# Altium footprint library Lib_foot_Radar.PcbLib: 80 footprints (part 1 of 5)
Each footprint in its own frame and in the unit in brackets; x right, y up, seen from the top. Pads: shape width x height; smd on the part's side, far side on the other; paste and mask are expansions set on the pad; w line width, h text height; cw(c..) or ccw(c..) is an arc to the next point about the centre after c.
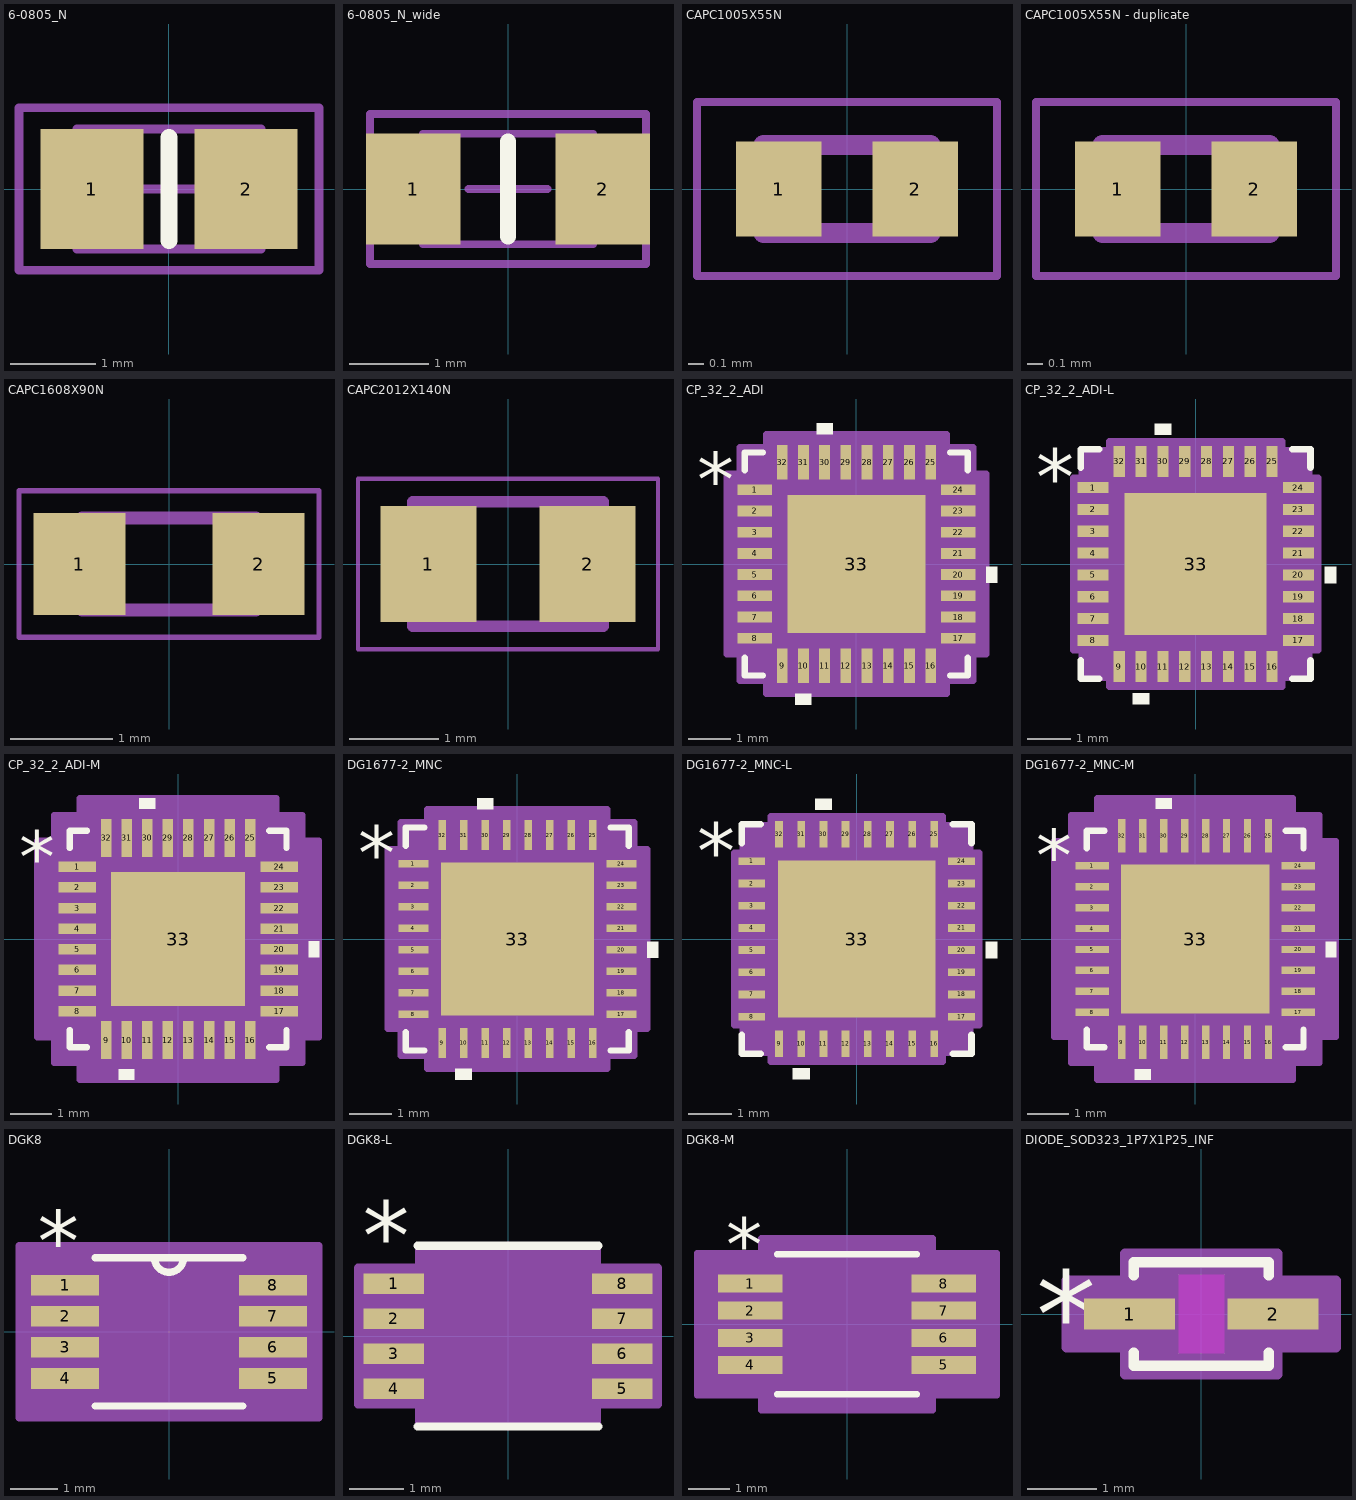
[diagram p0: the footprints below, top view; thin cyan lines are the x and y axes]

## 6-0805_N [mm]
pads (2):
  rect 1.2x1.4 smd: 1(-0.9,0) 2(0.9,0)
Top Overlay:
  lines w0.2: 0,-0.6 0,0.6
Mechanical 13:
  lines w0.1: -1.075,-0.7 1.075,-0.7 1.075,0.7 -1.075,0.7 -1.075,-0.7
Mechanical 15:
  lines w0.1: -0.5,0 0.5,0 ; 0,-0.5 0,0.5 ; -1.75,-0.95 1.75,-0.95 1.75,0.95 -1.75,0.95 -1.75,-0.95
3D body: height 0.7, standoff 0, extent -1.075,-0.7 1.075,0.7

## 6-0805_N_wide [mm]
pads (2):
  rect 1.2x1.4 smd: 1(-1.2,0) 2(1.2,0)
Top Overlay:
  lines w0.2: 0,-0.6 0,0.6
Mechanical 13:
  lines w0.1: -1.075,-0.7 1.075,-0.7 1.075,0.7 -1.075,0.7 -1.075,-0.7
Mechanical 15:
  lines w0.1: -0.5,0 0.5,0 ; 0,-0.5 0,0.5 ; -1.75,-0.95 1.75,-0.95 1.75,0.95 -1.75,0.95 -1.75,-0.95
3D body: height 0.7, standoff 0, extent -1.075,-0.7 1.075,0.7

## CAPC1005X55N [mm]
pads (2):
  rect 0.54x0.6 smd: 1(-0.432,0) 2(0.432,0)
Mechanical 13:
  lines w0.127: -0.53,-0.28 0.53,-0.28 0.53,0.28 -0.53,0.28 -0.53,-0.28
Mechanical 15:
  lines w0.05: -0.95,-0.55 0.95,-0.55 0.95,0.55 -0.95,0.55 -0.95,-0.55
3D body "step_temp.STEP": height 0.55, standoff 0, extent -0.5,-0.25 0.5,0.25

## CAPC1005X55N - duplicate [mm]
pads (2):
  rect 0.54x0.6 smd: 1(-0.432,0) 2(0.432,0)
Mechanical 13:
  lines w0.127: -0.53,-0.28 -0.53,0.28 0.53,0.28 0.53,-0.28 -0.53,-0.28
Mechanical 15:
  lines w0.05: -0.95,-0.55 -0.95,0.55 0.95,0.55 0.95,-0.55 -0.95,-0.55
3D body "step_temp.STEP": height 0.55, standoff 0, extent -0.5,-0.25 0.5,0.25

## CAPC1608X90N [mm]
pads (2):
  rect 0.9x1 smd: 1(-0.875,0) 2(0.875,0)
Mechanical 13:
  lines w0.127: -0.85,-0.45 -0.85,0.45 0.85,0.45 0.85,-0.45 -0.85,-0.45
Mechanical 15:
  lines w0.05: -1.465,-0.715 -1.465,0.715 1.465,0.715 1.465,-0.715 -1.465,-0.715
3D body "G-188_MUR.step": height 0.89, standoff 0, extent -0.8,-0.406 0.8,0.406

## CAPC2012X140N [mm]
pads (2):
  rect 1.08x1.3 smd: 1(-0.895,0) 2(0.895,0)
Mechanical 13:
  lines w0.127: -1.07,-0.7 1.07,-0.7 1.07,0.7 -1.07,0.7 -1.07,-0.7
Mechanical 15:
  lines w0.05: -1.685,-0.96 1.685,-0.96 1.685,0.96 -1.685,0.96 -1.685,-0.96
3D body "GRM21BR61E106KA73K.step": height -0.38, standoff -1.63, extent -1,-0.7 1,0.7

## CP_32_2_ADI [mil]
pads (33):
  rect 32x10 smd paste+0 mask+0: 1(-94.5,68.9) 2(-94.5,49.21) 3(-94.5,29.53) 4(-94.5,9.84) 5(-94.5,-9.84) 6(-94.5,-29.53) 7(-94.5,-49.21) 8(-94.5,-68.9) 17(94.5,-68.9) 18(94.5,-49.21) 19(94.5,-29.53) 20(94.5,-9.84) 21(94.5,9.84) 22(94.5,29.53) 23(94.5,49.21) 24(94.5,68.9)
  rect 10x32 smd paste+0 mask+0: 9(-68.9,-94.5) 10(-49.21,-94.5) 11(-29.53,-94.5) 12(-9.84,-94.5) 13(9.84,-94.5) 14(29.53,-94.5) 15(49.21,-94.5) 16(68.9,-94.5) 25(68.9,94.5) 26(49.21,94.5) 27(29.53,94.5) 28(9.84,94.5) 29(-9.84,94.5) 30(-29.53,94.5) 31(-49.21,94.5) 32(-68.9,94.5)
  rect 128x128 smd paste-64 mask+0: 33(0,0)
Top Overlay:
  region: -41.71,-120.5 -56.71,-120.5 -56.71,-130.5 -41.71,-130.5
  region: 120.5,-2.34 130.5,-2.34 130.5,-17.34 120.5,-17.34
  region: -22.03,120.5 -37.03,120.5 -37.03,130.5 -22.03,130.5
  lines w6: -103.5,-87 -103.5,-103.5 -87,-103.5 ; -103.5,87 -103.5,103.5 -87,103.5 ; 87,-103.5 103.5,-103.5 103.5,-87 ; 87,103.5 103.5,103.5 103.5,87
  text "*" at -148,53.74 h50
Top Paste:
  region: -3.94,60.06 -60.06,60.06 -60.06,3.94 -3.94,3.94
  region: -3.94,-3.94 -60.06,-3.94 -60.06,-60.06 -3.94,-60.06
  region: 60.06,60.06 3.94,60.06 3.94,3.94 60.06,3.94
  region: 60.06,-3.94 3.94,-3.94 3.94,-60.06 60.06,-60.06
Mechanical 13:
  lines w1: -98.5,48.5 -48.5,98.5 ; -98.5,-98.5 98.5,-98.5 98.5,98.5 -98.5,98.5 -98.5,-98.5 ; -98.5,-74.9 -98.5,-62.9 -98.5,-74.9 ; -98.5,-55.21 -98.5,-43.21 -98.5,-55.21 ; -98.5,-35.53 -98.5,-23.53 -98.5,-35.53 ; -98.5,-15.84 -98.5,-3.84 -98.5,-15.84 ; -98.5,3.84 -98.5,15.84 -98.5,3.84 ; -98.5,23.53 -98.5,35.53 -98.5,23.53 ; -98.5,43.21 -98.5,55.21 -98.5,43.21 ; -98.5,62.9 -98.5,74.9 -98.5,62.9 ; -74.9,-98.5 -62.9,-98.5 -74.9,-98.5 ; -74.9,98.5 -62.9,98.5 -74.9,98.5 ; -55.21,-98.5 -43.21,-98.5 -55.21,-98.5 ; -55.21,98.5 -43.21,98.5 -55.21,98.5 ; -35.53,-98.5 -23.53,-98.5 -35.53,-98.5 ; -35.53,98.5 -23.53,98.5 -35.53,98.5 ; -15.84,-98.5 -3.84,-98.5 -15.84,-98.5 ; -15.84,98.5 -3.84,98.5 -15.84,98.5 ; 3.84,-98.5 15.84,-98.5 3.84,-98.5 ; 3.84,98.5 15.84,98.5 3.84,98.5 ; 23.53,-98.5 35.53,-98.5 23.53,-98.5 ; 23.53,98.5 35.53,98.5 23.53,98.5 ; 43.21,-98.5 55.21,-98.5 43.21,-98.5 ; 43.21,98.5 55.21,98.5 43.21,98.5 ; 62.9,-98.5 74.9,-98.5 62.9,-98.5 ; 62.9,98.5 74.9,98.5 62.9,98.5 ; 98.5,-74.9 98.5,-62.9 98.5,-74.9 ; 98.5,-55.21 98.5,-43.21 98.5,-55.21 ; 98.5,-35.53 98.5,-23.53 98.5,-35.53 ; 98.5,-15.84 98.5,-3.84 98.5,-15.84 ; 98.5,3.84 98.5,15.84 98.5,3.84 ; 98.5,23.53 98.5,35.53 98.5,23.53 ; 98.5,43.21 98.5,55.21 98.5,43.21 ; 98.5,62.9 98.5,74.9 98.5,62.9
  text "*" at -91,53.74 h50
Mechanical 15:
  region: -83.9,-108.5 -108.5,-108.5 -108.5,-83.9 -120.5,-83.9 -120.5,83.9 -108.5,83.9 -108.5,108.5 -83.9,108.5 -83.9,120.5 83.9,120.5 83.9,108.5 108.5,108.5 108.5,83.9 120.5,83.9 120.5,-83.9 108.5,-83.9 108.5,-108.5 83.9,-108.5 83.9,-120.5 -83.9,-120.5
  lines w6: -120.5,-83.9 -108.5,-83.9 -108.5,-108.5 -83.9,-108.5 -83.9,-120.5 83.9,-120.5 83.9,-108.5 108.5,-108.5 108.5,-83.9 120.5,-83.9 120.5,83.9 108.5,83.9 108.5,108.5 83.9,108.5 83.9,120.5 -83.9,120.5 -83.9,108.5 -108.5,108.5 -108.5,83.9 -120.5,83.9 -120.5,-83.9
3D body "CP_32_2_ADI.step": height 39.09, standoff 0, extent -98.5,-98.5 98.5,98.5

## CP_32_2_ADI-L [mil]
pads (33):
  rect 28x10 smd paste+0 mask+0: 1(-92.5,68.9) 2(-92.5,49.21) 3(-92.5,29.53) 4(-92.5,9.84) 5(-92.5,-9.84) 6(-92.5,-29.53) 7(-92.5,-49.21) 8(-92.5,-68.9) 17(92.5,-68.9) 18(92.5,-49.21) 19(92.5,-29.53) 20(92.5,-9.84) 21(92.5,9.84) 22(92.5,29.53) 23(92.5,49.21) 24(92.5,68.9)
  rect 10x28 smd paste+0 mask+0: 9(-68.9,-92.5) 10(-49.21,-92.5) 11(-29.53,-92.5) 12(-9.84,-92.5) 13(9.84,-92.5) 14(29.53,-92.5) 15(49.21,-92.5) 16(68.9,-92.5) 25(68.9,92.5) 26(49.21,92.5) 27(29.53,92.5) 28(9.84,92.5) 29(-9.84,92.5) 30(-29.53,92.5) 31(-49.21,92.5) 32(-68.9,92.5)
  rect 128x128 smd paste-64 mask+0: 33(0,0)
Top Overlay:
  region: -22.03,116.5 -37.03,116.5 -37.03,126.5 -22.03,126.5
  region: 116.5,-2.34 126.5,-2.34 126.5,-17.34 116.5,-17.34
  region: -41.71,-116.5 -56.71,-116.5 -56.71,-126.5 -41.71,-126.5
  lines w6: -103.5,-87 -103.5,-103.5 -87,-103.5 ; -103.5,87 -103.5,103.5 -87,103.5 ; 87,-103.5 103.5,-103.5 103.5,-87 ; 87,103.5 103.5,103.5 103.5,87
  text "*" at -144,53.74 h50
Top Paste:
  region: 60.06,-3.94 3.94,-3.94 3.94,-60.06 60.06,-60.06
  region: 60.06,60.06 3.94,60.06 3.94,3.94 60.06,3.94
  region: -3.94,-3.94 -60.06,-3.94 -60.06,-60.06 -3.94,-60.06
  region: -3.94,60.06 -60.06,60.06 -60.06,3.94 -3.94,3.94
Mechanical 13:
  lines w1: -98.5,48.5 -48.5,98.5 ; -98.5,-98.5 -98.5,98.5 98.5,98.5 98.5,-98.5 -98.5,-98.5 ; -98.5,-74.9 -98.5,-62.9 -98.5,-74.9 ; -98.5,-55.21 -98.5,-43.21 -98.5,-55.21 ; -98.5,-35.53 -98.5,-23.53 -98.5,-35.53 ; -98.5,-15.84 -98.5,-3.84 -98.5,-15.84 ; -98.5,3.84 -98.5,15.84 -98.5,3.84 ; -98.5,23.53 -98.5,35.53 -98.5,23.53 ; -98.5,43.21 -98.5,55.21 -98.5,43.21 ; -98.5,62.9 -98.5,74.9 -98.5,62.9 ; -74.9,-98.5 -62.9,-98.5 -74.9,-98.5 ; -74.9,98.5 -62.9,98.5 -74.9,98.5 ; -55.21,-98.5 -43.21,-98.5 -55.21,-98.5 ; -55.21,98.5 -43.21,98.5 -55.21,98.5 ; -35.53,-98.5 -23.53,-98.5 -35.53,-98.5 ; -35.53,98.5 -23.53,98.5 -35.53,98.5 ; -15.84,-98.5 -3.84,-98.5 -15.84,-98.5 ; -15.84,98.5 -3.84,98.5 -15.84,98.5 ; 3.84,-98.5 15.84,-98.5 3.84,-98.5 ; 3.84,98.5 15.84,98.5 3.84,98.5 ; 23.53,-98.5 35.53,-98.5 23.53,-98.5 ; 23.53,98.5 35.53,98.5 23.53,98.5 ; 43.21,-98.5 55.21,-98.5 43.21,-98.5 ; 43.21,98.5 55.21,98.5 43.21,98.5 ; 62.9,-98.5 74.9,-98.5 62.9,-98.5 ; 62.9,98.5 74.9,98.5 62.9,98.5 ; 98.5,-74.9 98.5,-62.9 98.5,-74.9 ; 98.5,-55.21 98.5,-43.21 98.5,-55.21 ; 98.5,-35.53 98.5,-23.53 98.5,-35.53 ; 98.5,-15.84 98.5,-3.84 98.5,-15.84 ; 98.5,3.84 98.5,15.84 98.5,3.84 ; 98.5,23.53 98.5,35.53 98.5,23.53 ; 98.5,43.21 98.5,55.21 98.5,43.21 ; 98.5,62.9 98.5,74.9 98.5,62.9
  text "*" at -91,53.74 h50
Mechanical 15:
  region: -77.9,-102.5 -102.5,-102.5 -102.5,-77.9 -110.5,-77.9 -110.5,77.9 -102.5,77.9 -102.5,102.5 -77.9,102.5 -77.9,110.5 77.9,110.5 77.9,102.5 102.5,102.5 102.5,77.9 110.5,77.9 110.5,-77.9 102.5,-77.9 102.5,-102.5 77.9,-102.5 77.9,-110.5 -77.9,-110.5
  lines w6: -110.5,-77.9 -110.5,77.9 -102.5,77.9 -102.5,102.5 -77.9,102.5 -77.9,110.5 77.9,110.5 77.9,102.5 102.5,102.5 102.5,77.9 110.5,77.9 110.5,-77.9 102.5,-77.9 102.5,-102.5 77.9,-102.5 77.9,-110.5 -77.9,-110.5 -77.9,-102.5 -102.5,-102.5 -102.5,-77.9 -110.5,-77.9
3D body "CP_32_2_ADI.step": height 39.09, standoff 0, extent -98.5,-98.5 98.5,98.5

## CP_32_2_ADI-M [mil]
pads (33):
  rect 36x10 smd paste+0 mask+0: 1(-96.5,68.9) 2(-96.5,49.21) 3(-96.5,29.53) 4(-96.5,9.84) 5(-96.5,-9.84) 6(-96.5,-29.53) 7(-96.5,-49.21) 8(-96.5,-68.9) 17(96.5,-68.9) 18(96.5,-49.21) 19(96.5,-29.53) 20(96.5,-9.84) 21(96.5,9.84) 22(96.5,29.53) 23(96.5,49.21) 24(96.5,68.9)
  rect 10x36 smd paste+0 mask+0: 9(-68.9,-96.5) 10(-49.21,-96.5) 11(-29.53,-96.5) 12(-9.84,-96.5) 13(9.84,-96.5) 14(29.53,-96.5) 15(49.21,-96.5) 16(68.9,-96.5) 25(68.9,96.5) 26(49.21,96.5) 27(29.53,96.5) 28(9.84,96.5) 29(-9.84,96.5) 30(-29.53,96.5) 31(-49.21,96.5) 32(-68.9,96.5)
  rect 128x128 smd paste-64 mask+0: 33(0,0)
Top Overlay:
  region: -41.71,-124.5 -56.71,-124.5 -56.71,-134.5 -41.71,-134.5
  region: 124.5,-2.34 134.5,-2.34 134.5,-17.34 124.5,-17.34
  region: -22.03,124.5 -37.03,124.5 -37.03,134.5 -22.03,134.5
  lines w6: -103.5,-87 -103.5,-103.5 -87,-103.5 ; -103.5,87 -103.5,103.5 -87,103.5 ; 87,-103.5 103.5,-103.5 103.5,-87 ; 87,103.5 103.5,103.5 103.5,87
  text "*" at -152,53.74 h50
Top Paste:
  region: -3.94,60.06 -60.06,60.06 -60.06,3.94 -3.94,3.94
  region: -3.94,-3.94 -60.06,-3.94 -60.06,-60.06 -3.94,-60.06
  region: 60.06,60.06 3.94,60.06 3.94,3.94 60.06,3.94
  region: 60.06,-3.94 3.94,-3.94 3.94,-60.06 60.06,-60.06
Mechanical 13:
  lines w1: -98.5,48.5 -48.5,98.5 ; -98.5,-98.5 98.5,-98.5 98.5,98.5 -98.5,98.5 -98.5,-98.5 ; -98.5,-74.9 -98.5,-62.9 -98.5,-74.9 ; -98.5,-55.21 -98.5,-43.21 -98.5,-55.21 ; -98.5,-35.53 -98.5,-23.53 -98.5,-35.53 ; -98.5,-15.84 -98.5,-3.84 -98.5,-15.84 ; -98.5,3.84 -98.5,15.84 -98.5,3.84 ; -98.5,23.53 -98.5,35.53 -98.5,23.53 ; -98.5,43.21 -98.5,55.21 -98.5,43.21 ; -98.5,62.9 -98.5,74.9 -98.5,62.9 ; -74.9,-98.5 -62.9,-98.5 -74.9,-98.5 ; -74.9,98.5 -62.9,98.5 -74.9,98.5 ; -55.21,-98.5 -43.21,-98.5 -55.21,-98.5 ; -55.21,98.5 -43.21,98.5 -55.21,98.5 ; -35.53,-98.5 -23.53,-98.5 -35.53,-98.5 ; -35.53,98.5 -23.53,98.5 -35.53,98.5 ; -15.84,-98.5 -3.84,-98.5 -15.84,-98.5 ; -15.84,98.5 -3.84,98.5 -15.84,98.5 ; 3.84,-98.5 15.84,-98.5 3.84,-98.5 ; 3.84,98.5 15.84,98.5 3.84,98.5 ; 23.53,-98.5 35.53,-98.5 23.53,-98.5 ; 23.53,98.5 35.53,98.5 23.53,98.5 ; 43.21,-98.5 55.21,-98.5 43.21,-98.5 ; 43.21,98.5 55.21,98.5 43.21,98.5 ; 62.9,-98.5 74.9,-98.5 62.9,-98.5 ; 62.9,98.5 74.9,98.5 62.9,98.5 ; 98.5,-74.9 98.5,-62.9 98.5,-74.9 ; 98.5,-55.21 98.5,-43.21 98.5,-55.21 ; 98.5,-35.53 98.5,-23.53 98.5,-35.53 ; 98.5,-15.84 98.5,-3.84 98.5,-15.84 ; 98.5,3.84 98.5,15.84 98.5,3.84 ; 98.5,23.53 98.5,35.53 98.5,23.53 ; 98.5,43.21 98.5,55.21 98.5,43.21 ; 98.5,62.9 98.5,74.9 98.5,62.9
  text "*" at -91,53.74 h50
Mechanical 15:
  region: -93.9,-118.5 -118.5,-118.5 -118.5,-93.9 -134.5,-93.9 -134.5,93.9 -118.5,93.9 -118.5,118.5 -93.9,118.5 -93.9,134.5 93.9,134.5 93.9,118.5 118.5,118.5 118.5,93.9 134.5,93.9 134.5,-93.9 118.5,-93.9 118.5,-118.5 93.9,-118.5 93.9,-134.5 -93.9,-134.5
  lines w6: -134.5,-93.9 -118.5,-93.9 -118.5,-118.5 -93.9,-118.5 -93.9,-134.5 93.9,-134.5 93.9,-118.5 118.5,-118.5 118.5,-93.9 134.5,-93.9 134.5,93.9 118.5,93.9 118.5,118.5 93.9,118.5 93.9,134.5 -93.9,134.5 -93.9,118.5 -118.5,118.5 -118.5,93.9 -134.5,93.9 -134.5,-93.9
3D body "CP_32_2_ADI.step": height 39.09, standoff 0, extent -98.5,-98.5 98.5,98.5

## DG1677-2_MNC [mil]
pads (33):
  rect 28x7 smd paste+0 mask+0: 1(-96.5,70) 2(-96.5,50) 3(-96.5,30) 4(-96.5,10) 5(-96.5,-10) 6(-96.5,-30) 7(-96.5,-50) 8(-96.5,-70) 17(96.5,-70) 18(96.5,-50) 19(96.5,-30) 20(96.5,-10) 21(96.5,10) 22(96.5,30) 23(96.5,50) 24(96.5,70)
  rect 7x28 smd paste+0 mask+0: 9(-70,-96.5) 10(-50,-96.5) 11(-30,-96.5) 12(-10,-96.5) 13(10,-96.5) 14(30,-96.5) 15(50,-96.5) 16(70,-96.5) 25(70,96.5) 26(50,96.5) 27(30,96.5) 28(10,96.5) 29(-10,96.5) 30(-30,96.5) 31(-50,96.5) 32(-70,96.5)
  rect 142x142 smd paste-71 mask+0: 33(0,0)
Top Overlay:
  region: -42.5,-120.5 -57.5,-120.5 -57.5,-130.5 -42.5,-130.5
  region: 120.5,-2.5 130.5,-2.5 130.5,-17.5 120.5,-17.5
  region: -22.5,120.5 -37.5,120.5 -37.5,130.5 -22.5,130.5
  lines w6: -103.5,-86.6 -103.5,-103.5 -86.6,-103.5 ; -103.5,86.6 -103.5,103.5 -86.6,103.5 ; 86.6,-103.5 103.5,-103.5 103.5,-86.6 ; 86.6,103.5 103.5,103.5 103.5,86.6
  text "*" at -148,55 h50
Top Paste:
  region: -3.94,67.06 -67.06,67.06 -67.06,3.94 -3.94,3.94
  region: -3.94,-3.94 -67.06,-3.94 -67.06,-67.06 -3.94,-67.06
  region: 67.06,67.06 3.94,67.06 3.94,3.94 67.06,3.94
  region: 67.06,-3.94 3.94,-3.94 3.94,-67.06 67.06,-67.06
Mechanical 13:
  lines w1: -98.5,48.5 -48.5,98.5 ; -98.5,-98.5 98.5,-98.5 98.5,98.5 -98.5,98.5 -98.5,-98.5 ; -98.5,-74.5 -98.5,-65.5 -98.5,-74.5 ; -98.5,-54.5 -98.5,-45.5 -98.5,-54.5 ; -98.5,-34.5 -98.5,-25.5 -98.5,-34.5 ; -98.5,-14.5 -98.5,-5.5 -98.5,-14.5 ; -98.5,5.5 -98.5,14.5 -98.5,5.5 ; -98.5,25.5 -98.5,34.5 -98.5,25.5 ; -98.5,45.5 -98.5,54.5 -98.5,45.5 ; -98.5,65.5 -98.5,74.5 -98.5,65.5 ; -74.5,-98.5 -65.5,-98.5 -74.5,-98.5 ; -74.5,98.5 -65.5,98.5 -74.5,98.5 ; -54.5,-98.5 -45.5,-98.5 -54.5,-98.5 ; -54.5,98.5 -45.5,98.5 -54.5,98.5 ; -34.5,-98.5 -25.5,-98.5 -34.5,-98.5 ; -34.5,98.5 -25.5,98.5 -34.5,98.5 ; -14.5,-98.5 -5.5,-98.5 -14.5,-98.5 ; -14.5,98.5 -5.5,98.5 -14.5,98.5 ; 5.5,-98.5 14.5,-98.5 5.5,-98.5 ; 5.5,98.5 14.5,98.5 5.5,98.5 ; 25.5,-98.5 34.5,-98.5 25.5,-98.5 ; 25.5,98.5 34.5,98.5 25.5,98.5 ; 45.5,-98.5 54.5,-98.5 45.5,-98.5 ; 45.5,98.5 54.5,98.5 45.5,98.5 ; 65.5,-98.5 74.5,-98.5 65.5,-98.5 ; 65.5,98.5 74.5,98.5 65.5,98.5 ; 98.5,-74.5 98.5,-65.5 98.5,-74.5 ; 98.5,-54.5 98.5,-45.5 98.5,-54.5 ; 98.5,-34.5 98.5,-25.5 98.5,-34.5 ; 98.5,-14.5 98.5,-5.5 98.5,-14.5 ; 98.5,5.5 98.5,14.5 98.5,5.5 ; 98.5,25.5 98.5,34.5 98.5,25.5 ; 98.5,45.5 98.5,54.5 98.5,45.5 ; 98.5,65.5 98.5,74.5 98.5,65.5
  text "*" at -95,55 h50
Mechanical 15:
  region: -83.5,-108.5 -108.5,-108.5 -108.5,-83.5 -120.5,-83.5 -120.5,83.5 -108.5,83.5 -108.5,108.5 -83.5,108.5 -83.5,120.5 83.5,120.5 83.5,108.5 108.5,108.5 108.5,83.5 120.5,83.5 120.5,-83.5 108.5,-83.5 108.5,-108.5 83.5,-108.5 83.5,-120.5 -83.5,-120.5
  lines w6: -120.5,-83.5 -108.5,-83.5 -108.5,-108.5 -83.5,-108.5 -83.5,-120.5 83.5,-120.5 83.5,-108.5 108.5,-108.5 108.5,-83.5 120.5,-83.5 120.5,83.5 108.5,83.5 108.5,108.5 83.5,108.5 83.5,120.5 -83.5,120.5 -83.5,108.5 -108.5,108.5 -108.5,83.5 -120.5,83.5 -120.5,-83.5
3D body "DG1677-2_MNC.step": height 39.09, standoff 0, extent -98.5,-98.5 98.5,98.5

## DG1677-2_MNC-L [mil]
pads (33):
  rect 24x7 smd paste+0 mask+0: 1(-94.5,70) 2(-94.5,50) 3(-94.5,30) 4(-94.5,10) 5(-94.5,-10) 6(-94.5,-30) 7(-94.5,-50) 8(-94.5,-70) 17(94.5,-70) 18(94.5,-50) 19(94.5,-30) 20(94.5,-10) 21(94.5,10) 22(94.5,30) 23(94.5,50) 24(94.5,70)
  rect 7x24 smd paste+0 mask+0: 9(-70,-94.5) 10(-50,-94.5) 11(-30,-94.5) 12(-10,-94.5) 13(10,-94.5) 14(30,-94.5) 15(50,-94.5) 16(70,-94.5) 25(70,94.5) 26(50,94.5) 27(30,94.5) 28(10,94.5) 29(-10,94.5) 30(-30,94.5) 31(-50,94.5) 32(-70,94.5)
  rect 142x142 smd paste-71 mask+0: 33(0,0)
Top Overlay:
  region: -42.5,-116.5 -57.5,-116.5 -57.5,-126.5 -42.5,-126.5
  region: 116.5,-2.5 126.5,-2.5 126.5,-17.5 116.5,-17.5
  region: -22.5,116.5 -37.5,116.5 -37.5,126.5 -22.5,126.5
  lines w6: -103.5,-86.6 -103.5,-103.5 -86.6,-103.5 ; -103.5,86.6 -103.5,103.5 -86.6,103.5 ; 86.6,-103.5 103.5,-103.5 103.5,-86.6 ; 86.6,103.5 103.5,103.5 103.5,86.6
  text "*" at -144,55 h50
Top Paste:
  region: -3.94,67.06 -67.06,67.06 -67.06,3.94 -3.94,3.94
  region: -3.94,-3.94 -67.06,-3.94 -67.06,-67.06 -3.94,-67.06
  region: 67.06,67.06 3.94,67.06 3.94,3.94 67.06,3.94
  region: 67.06,-3.94 3.94,-3.94 3.94,-67.06 67.06,-67.06
Mechanical 13:
  lines w1: -98.5,48.5 -48.5,98.5 ; -98.5,-98.5 98.5,-98.5 98.5,98.5 -98.5,98.5 -98.5,-98.5 ; -98.5,-74.5 -98.5,-65.5 -98.5,-74.5 ; -98.5,-54.5 -98.5,-45.5 -98.5,-54.5 ; -98.5,-34.5 -98.5,-25.5 -98.5,-34.5 ; -98.5,-14.5 -98.5,-5.5 -98.5,-14.5 ; -98.5,5.5 -98.5,14.5 -98.5,5.5 ; -98.5,25.5 -98.5,34.5 -98.5,25.5 ; -98.5,45.5 -98.5,54.5 -98.5,45.5 ; -98.5,65.5 -98.5,74.5 -98.5,65.5 ; -74.5,-98.5 -65.5,-98.5 -74.5,-98.5 ; -74.5,98.5 -65.5,98.5 -74.5,98.5 ; -54.5,-98.5 -45.5,-98.5 -54.5,-98.5 ; -54.5,98.5 -45.5,98.5 -54.5,98.5 ; -34.5,-98.5 -25.5,-98.5 -34.5,-98.5 ; -34.5,98.5 -25.5,98.5 -34.5,98.5 ; -14.5,-98.5 -5.5,-98.5 -14.5,-98.5 ; -14.5,98.5 -5.5,98.5 -14.5,98.5 ; 5.5,-98.5 14.5,-98.5 5.5,-98.5 ; 5.5,98.5 14.5,98.5 5.5,98.5 ; 25.5,-98.5 34.5,-98.5 25.5,-98.5 ; 25.5,98.5 34.5,98.5 25.5,98.5 ; 45.5,-98.5 54.5,-98.5 45.5,-98.5 ; 45.5,98.5 54.5,98.5 45.5,98.5 ; 65.5,-98.5 74.5,-98.5 65.5,-98.5 ; 65.5,98.5 74.5,98.5 65.5,98.5 ; 98.5,-74.5 98.5,-65.5 98.5,-74.5 ; 98.5,-54.5 98.5,-45.5 98.5,-54.5 ; 98.5,-34.5 98.5,-25.5 98.5,-34.5 ; 98.5,-14.5 98.5,-5.5 98.5,-14.5 ; 98.5,5.5 98.5,14.5 98.5,5.5 ; 98.5,25.5 98.5,34.5 98.5,25.5 ; 98.5,45.5 98.5,54.5 98.5,45.5 ; 98.5,65.5 98.5,74.5 98.5,65.5
  text "*" at -95,55 h50
Mechanical 15:
  region: -77.5,-102.5 -102.5,-102.5 -102.5,-77.5 -110.5,-77.5 -110.5,77.5 -102.5,77.5 -102.5,102.5 -77.5,102.5 -77.5,110.5 77.5,110.5 77.5,102.5 102.5,102.5 102.5,77.5 110.5,77.5 110.5,-77.5 102.5,-77.5 102.5,-102.5 77.5,-102.5 77.5,-110.5 -77.5,-110.5
  lines w6: -110.5,-77.5 -102.5,-77.5 -102.5,-102.5 -77.5,-102.5 -77.5,-110.5 77.5,-110.5 77.5,-102.5 102.5,-102.5 102.5,-77.5 110.5,-77.5 110.5,77.5 102.5,77.5 102.5,102.5 77.5,102.5 77.5,110.5 -77.5,110.5 -77.5,102.5 -102.5,102.5 -102.5,77.5 -110.5,77.5 -110.5,-77.5
3D body "DG1677-2_MNC.step": height 39.09, standoff 0, extent -98.5,-98.5 98.5,98.5

## DG1677-2_MNC-M [mil]
pads (33):
  rect 32x7 smd paste+0 mask+0: 1(-98.5,70) 2(-98.5,50) 3(-98.5,30) 4(-98.5,10) 5(-98.5,-10) 6(-98.5,-30) 7(-98.5,-50) 8(-98.5,-70) 17(98.5,-70) 18(98.5,-50) 19(98.5,-30) 20(98.5,-10) 21(98.5,10) 22(98.5,30) 23(98.5,50) 24(98.5,70)
  rect 7x32 smd paste+0 mask+0: 9(-70,-98.5) 10(-50,-98.5) 11(-30,-98.5) 12(-10,-98.5) 13(10,-98.5) 14(30,-98.5) 15(50,-98.5) 16(70,-98.5) 25(70,98.5) 26(50,98.5) 27(30,98.5) 28(10,98.5) 29(-10,98.5) 30(-30,98.5) 31(-50,98.5) 32(-70,98.5)
  rect 142x142 smd paste-71 mask+0: 33(0,0)
Top Overlay:
  region: -22.5,124.5 -37.5,124.5 -37.5,134.5 -22.5,134.5
  region: 124.5,-2.5 134.5,-2.5 134.5,-17.5 124.5,-17.5
  region: -42.5,-124.5 -57.5,-124.5 -57.5,-134.5 -42.5,-134.5
  lines w6: -103.5,-86.6 -103.5,-103.5 -86.6,-103.5 ; -103.5,86.6 -103.5,103.5 -86.6,103.5 ; 86.6,-103.5 103.5,-103.5 103.5,-86.6 ; 86.6,103.5 103.5,103.5 103.5,86.6
  text "*" at -152,55 h50
Top Paste:
  region: 67.06,-3.94 3.94,-3.94 3.94,-67.06 67.06,-67.06
  region: 67.06,67.06 3.94,67.06 3.94,3.94 67.06,3.94
  region: -3.94,-3.94 -67.06,-3.94 -67.06,-67.06 -3.94,-67.06
  region: -3.94,67.06 -67.06,67.06 -67.06,3.94 -3.94,3.94
Mechanical 13:
  lines w1: -98.5,48.5 -48.5,98.5 ; -98.5,-98.5 -98.5,98.5 98.5,98.5 98.5,-98.5 -98.5,-98.5 ; -98.5,-74.5 -98.5,-65.5 -98.5,-74.5 ; -98.5,-54.5 -98.5,-45.5 -98.5,-54.5 ; -98.5,-34.5 -98.5,-25.5 -98.5,-34.5 ; -98.5,-14.5 -98.5,-5.5 -98.5,-14.5 ; -98.5,5.5 -98.5,14.5 -98.5,5.5 ; -98.5,25.5 -98.5,34.5 -98.5,25.5 ; -98.5,45.5 -98.5,54.5 -98.5,45.5 ; -98.5,65.5 -98.5,74.5 -98.5,65.5 ; -74.5,-98.5 -65.5,-98.5 -74.5,-98.5 ; -74.5,98.5 -65.5,98.5 -74.5,98.5 ; -54.5,-98.5 -45.5,-98.5 -54.5,-98.5 ; -54.5,98.5 -45.5,98.5 -54.5,98.5 ; -34.5,-98.5 -25.5,-98.5 -34.5,-98.5 ; -34.5,98.5 -25.5,98.5 -34.5,98.5 ; -14.5,-98.5 -5.5,-98.5 -14.5,-98.5 ; -14.5,98.5 -5.5,98.5 -14.5,98.5 ; 5.5,-98.5 14.5,-98.5 5.5,-98.5 ; 5.5,98.5 14.5,98.5 5.5,98.5 ; 25.5,-98.5 34.5,-98.5 25.5,-98.5 ; 25.5,98.5 34.5,98.5 25.5,98.5 ; 45.5,-98.5 54.5,-98.5 45.5,-98.5 ; 45.5,98.5 54.5,98.5 45.5,98.5 ; 65.5,-98.5 74.5,-98.5 65.5,-98.5 ; 65.5,98.5 74.5,98.5 65.5,98.5 ; 98.5,-74.5 98.5,-65.5 98.5,-74.5 ; 98.5,-54.5 98.5,-45.5 98.5,-54.5 ; 98.5,-34.5 98.5,-25.5 98.5,-34.5 ; 98.5,-14.5 98.5,-5.5 98.5,-14.5 ; 98.5,5.5 98.5,14.5 98.5,5.5 ; 98.5,25.5 98.5,34.5 98.5,25.5 ; 98.5,45.5 98.5,54.5 98.5,45.5 ; 98.5,65.5 98.5,74.5 98.5,65.5
  text "*" at -95,55 h50
Mechanical 15:
  region: -93.5,-118.5 -118.5,-118.5 -118.5,-93.5 -134.5,-93.5 -134.5,93.5 -118.5,93.5 -118.5,118.5 -93.5,118.5 -93.5,134.5 93.5,134.5 93.5,118.5 118.5,118.5 118.5,93.5 134.5,93.5 134.5,-93.5 118.5,-93.5 118.5,-118.5 93.5,-118.5 93.5,-134.5 -93.5,-134.5
  lines w6: -134.5,-93.5 -134.5,93.5 -118.5,93.5 -118.5,118.5 -93.5,118.5 -93.5,134.5 93.5,134.5 93.5,118.5 118.5,118.5 118.5,93.5 134.5,93.5 134.5,-93.5 118.5,-93.5 118.5,-118.5 93.5,-118.5 93.5,-134.5 -93.5,-134.5 -93.5,-118.5 -118.5,-118.5 -118.5,-93.5 -134.5,-93.5
3D body "DG1677-2_MNC.step": height 39.09, standoff 0, extent -98.5,-98.5 98.5,98.5

## DGK8 [mil]
pads (8):
  rect 56x17 smd paste+0 mask+0: 1(-85.5,38.39) 2(-85.5,12.8) 3(-85.5,-12.8) 4(-85.5,-38.39) 5(85.5,-38.39) 6(85.5,-12.8) 7(85.5,12.8) 8(85.5,38.39)
Top Overlay:
  lines w6: -61,-61 61,-61 ; -61,61 61,61 ; -12,61 ccw(c0,61) 12,61
  text "*" at -108,50.39 h50
Mechanical 13:
  lines w0: -12,61 ccw(c0,61) 12,61
  lines w1: -99.5,-45.89 -99.5,-30.89 -61,-30.89 -61,-45.89 -99.5,-45.89 ; -99.5,-20.3 -99.5,-5.3 -61,-5.3 -61,-20.3 -99.5,-20.3 ; -99.5,5.3 -99.5,20.3 -61,20.3 -61,5.3 -99.5,5.3 ; -99.5,30.89 -99.5,45.89 -61,45.89 -61,30.89 -99.5,30.89 ; -61,-61 61,-61 61,61 -61,61 -61,-61 ; 61,-45.89 61,-30.89 99.5,-30.89 99.5,-45.89 61,-45.89 ; 61,-20.3 61,-5.3 99.5,-5.3 99.5,-20.3 61,-20.3 ; 61,5.3 61,20.3 99.5,20.3 99.5,5.3 61,5.3 ; 61,30.89 61,45.89 99.5,45.89 99.5,30.89 61,30.89
  text "*" at -108,50.39 h50
Mechanical 15:
  region: 123.5,-71 -123.5,-71 -123.5,71 123.5,71
  lines w6: -123.5,-71 -123.5,71 123.5,71 123.5,-71 -123.5,-71
3D body "DGK8.step": height 43.11, standoff 0, extent -99.49,-60.98 99.49,60.98

## DGK8-L [mil]
pads (8):
  rect 44x15 smd paste+0 mask+0: 1(-83.5,38.39) 2(-83.5,12.8) 3(-83.5,-12.8) 4(-83.5,-38.39) 5(83.5,-38.39) 6(83.5,-12.8) 7(83.5,12.8) 8(83.5,38.39)
Top Overlay:
  lines w6: -66,-66 66,-66 ; -66,66 66,66
  text "*" at -106,48.39 h50
Mechanical 13:
  lines w0: -12,61 ccw(c0,61) 12,61
  lines w1: -99.5,-45.89 -61,-45.89 -61,-30.89 -99.5,-30.89 -99.5,-45.89 ; -99.5,-20.3 -61,-20.3 -61,-5.3 -99.5,-5.3 -99.5,-20.3 ; -99.5,5.3 -61,5.3 -61,20.3 -99.5,20.3 -99.5,5.3 ; -99.5,30.89 -61,30.89 -61,45.89 -99.5,45.89 -99.5,30.89 ; -61,-61 -61,61 61,61 61,-61 -61,-61 ; 61,-45.89 99.5,-45.89 99.5,-30.89 61,-30.89 61,-45.89 ; 61,-20.3 99.5,-20.3 99.5,-5.3 61,-5.3 61,-20.3 ; 61,5.3 99.5,5.3 99.5,20.3 61,20.3 61,5.3 ; 61,30.89 99.5,30.89 99.5,45.89 61,45.89 61,30.89
  text "*" at -58.5,8 h50
Mechanical 15:
  region: -65,-49.89 -109.5,-49.89 -109.5,49.89 -65,49.89 -65,65 65,65 65,49.89 109.5,49.89 109.5,-49.89 65,-49.89 65,-65 -65,-65
  lines w6: -109.5,-49.89 -65,-49.89 -65,-65 65,-65 65,-49.89 109.5,-49.89 109.5,49.89 65,49.89 65,65 -65,65 -65,49.89 -109.5,49.89 -109.5,-49.89
3D body "DGK8.step": height 43.11, standoff 0, extent -99.49,-60.98 99.49,60.98

## DGK8-M [mil]
pads (8):
  rect 60.5x17 smd paste+0 mask+0: 1(-91.25,38.39) 2(-91.25,12.8) 3(-91.25,-12.8) 4(-91.25,-38.39) 5(91.25,-38.39) 6(91.25,-12.8) 7(91.25,12.8) 8(91.25,38.39)
Top Overlay:
  lines w6: -66,-66 66,-66 ; -66,66 66,66
  text "*" at -113.75,50.39 h50
Mechanical 13:
  lines w0: -12,61 ccw(c0,61) 12,61
  lines w1: -99.5,-45.89 -61,-45.89 -61,-30.89 -99.5,-30.89 -99.5,-45.89 ; -99.5,-20.3 -61,-20.3 -61,-5.3 -99.5,-5.3 -99.5,-20.3 ; -99.5,5.3 -61,5.3 -61,20.3 -99.5,20.3 -99.5,5.3 ; -99.5,30.89 -61,30.89 -61,45.89 -99.5,45.89 -99.5,30.89 ; -61,-61 -61,61 61,61 61,-61 -61,-61 ; 61,-45.89 99.5,-45.89 99.5,-30.89 61,-30.89 61,-45.89 ; 61,-20.3 99.5,-20.3 99.5,-5.3 61,-5.3 61,-20.3 ; 61,5.3 99.5,5.3 99.5,20.3 61,20.3 61,5.3 ; 61,30.89 99.5,30.89 99.5,45.89 61,45.89 61,30.89
  text "*" at -58.5,8 h50
Mechanical 15:
  region: -81,-66.89 -141.5,-66.89 -141.5,66.89 -81,66.89 -81,81 81,81 81,66.89 141.5,66.89 141.5,-66.89 81,-66.89 81,-81 -81,-81
  lines w6: -141.5,-66.89 -81,-66.89 -81,-81 81,-81 81,-66.89 141.5,-66.89 141.5,66.89 81,66.89 81,81 -81,81 -81,66.89 -141.5,66.89 -141.5,-66.89
3D body "DGK8.step": height 43.11, standoff 0, extent -99.49,-60.98 99.49,60.98

## DIODE_SOD323_1P7X1P25_INF [mil]
pads (2):
  rect 52x18 smd paste+0 mask+0: 1(-41,0) 2(41,0)
Top Overlay:
  lines w6: -38.5,-22.1 -38.5,-29.5 38.5,-29.5 38.5,-22.1 ; -38.5,22.1 -38.5,29.5 38.5,29.5 38.5,22.1
  text "*" at -94.5,-25 h50
Keep-Out Layer:
  region: -13,-22.5 -13,22.5 13,22.5 13,-22.5
Mechanical 13:
  lines w1: -33.5,-12.25 -21.25,-24.5 ; -33.5,12.25 -21.25,24.5 ; -53,-8 -33.5,-8 -33.5,8 -53,8 -53,-8 ; -33.5,-24.5 -33.5,24.5 33.5,24.5 33.5,-24.5 -33.5,-24.5 ; 33.5,-8 53,-8 53,8 33.5,8 33.5,-8
  text "*" at -36,-25 h50
Mechanical 15:
  region: -43.5,-19 -77,-19 -77,19 -43.5,19 -43.5,34.5 43.5,34.5 43.5,19 77,19 77,-19 43.5,-19 43.5,-34.5 -43.5,-34.5
  lines w6: -77,-19 -43.5,-19 -43.5,-34.5 43.5,-34.5 43.5,-19 77,-19 77,19 43.5,19 43.5,34.5 -43.5,34.5 -43.5,19 -77,19 -77,-19
3D body "DIODE_SOD323_1P7X1P25_INF.step": height 43.11, standoff 0, extent -52.99,-24.49 52.99,24.49